# Altium schematic symbol library Schlib_Reg.SchLib: 1 symbol
Pins are listed as number, name and electrical type; pins without a type are passive.

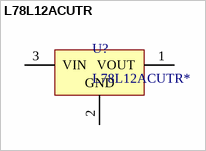
[diagram p0: symbol L78L12ACUTR]

## L78L12ACUTR
designator U?, comment L78L12ACUTR*
LINEAR VOLTAGE REGULATOR, 12V, SOT-89-4, FULL REEL; Input Voltage Min:19V; Input Voltage Max:35V; Output Current:100mA; Linear Regulator Case Style:SOT-89; No. of Pins:4; Operating Temperature Min:0 C; Operating Temperature Max:125 C; Manufacturer: STMicroelectronics; Dropout Voltage: 1.7V; Number of Outputs: 1; Output Current: 100mA; Max Input Voltage: 35V; Min Input Voltage: 14V; Polarity: Positive; Quiescent Current: 6.5mA; Accuracy: 4%; Power Supply Rejection Ratio (PSRR): 42dB; Output Type: Fixed; Supplier 1: Digi-Key; Manufacturer Part Number: L78L12ACUTR; RoHS: Yes; Category: Voltage Regulators - Linear; Stock 1: 18717; Pricing 1: 1=0.45000, 10=0.38600, 25=0.36000, 100=0.28790, 250=0.26732, 500=0.22620, 1000=0.17479 (USD); Mount: Surface Mount; Case/Package: SOT-89; Number of Pins: 3; Weight: 0.01lb; Min Operating Temperature: 0°C; Max Operating Temperature: 125°C; Max Output Current: 100mA; Output Voltage: 12V; Packaging: Tape and Reel; Package Quantity: 1; Nominal Output Voltage: 12V; Number of Regulators: 1; Min Output Voltage: 12V; Output Voltage Accuracy: 4%; Series: -; Length: 4.6mm; Width: 2.6mm; Height: 1.6mm; Radiation Hardening: No; REACH SVHC: No SVHC; Lead Free: Lead Free; RoHS Compliant: Yes; ComponentLink1URL: https://datasheet.ciiva.com/22710/1828429-22710944.pdf?src-supplier=Element14; ComponentLink1Description: https://datasheet.ciiva.com/22710/1828429-22710944.pdf?src-supplier=Element14; ComponentLink2URL: https://datasheet.ciiva.com/1511/1868798-1511952.pdf?src-supplier=Element14; ComponentLink2Description: https://datasheet.ciiva.com/1511/1868798-1511952.pdf?src-supplier=Element14; ComponentLink3URL: https://datasheet.ciiva.com/2041/cd00000446-2041956.pdf?src-supplier=Digi-Key; ComponentLink3Description: https://datasheet.ciiva.com/2041/cd00000446-2041956.pdf?src-supplier=Digi-Key; ComponentLink4URL: https://datasheet.ciiva.com/2041/cd00000446-2041957.pdf?src-supplier=Digi-Key; ComponentLink4Description: https://datasheet.ciiva.com/2041/cd00000446-2041957.pdf?src-supplier=Digi-Key; ComponentLink5URL: https://datasheet.ciiva.com/2041/cd00000446-2041958.pdf?src-supplier=Digi-Key; ComponentLink5Description: https://datasheet.ciiva.com/2041/cd00000446-2041958.pdf?src-supplier=Digi-Key; ComponentLink6URL: https://datasheet.ciiva.com/7992/1868798-7992599.pdf?src-supplier=Element14; ComponentLink6Description: https://datasheet.ciiva.com/7992/1868798-7992599.pdf?src-supplier=Element14; ComponentLink7URL: https://datasheet.ciiva.com/16219/cd00000446-16219545.pdf?src-supplier=Future+Electronics; ComponentLink7Description: https://datasheet.ciiva.com/16219/cd00000446-16219545.pdf?src-supplier=Future+Electronics; Supplier Part Number 1: 497-1195-1-ND
footprint SOT-89_M (SOT89, 3-Leads, Body 4.5x2.4 mm, Pitch 1.5mm, Lead Span 4.1mm, IPC Low Density)
footprint SOT-89_M (SOT89, 3-Leads, Body 4.5x2.4 mm, Pitch 1.5mm, Lead Span 4.1mm, IPC Low Density)
pins: 1 VOUT (power), 2 GND (power), 3 VIN (power)